# Altium footprint library MCU.PcbLib: 25 footprints (part 2 of 2)
Each footprint in its own frame and in the unit in brackets; x right, y up, seen from the top. Pads: shape width x height; smd on the part's side, far side on the other; paste and mask are expansions set on the pad; w line width, h text height; cw(c..) or ccw(c..) is an arc to the next point about the centre after c.
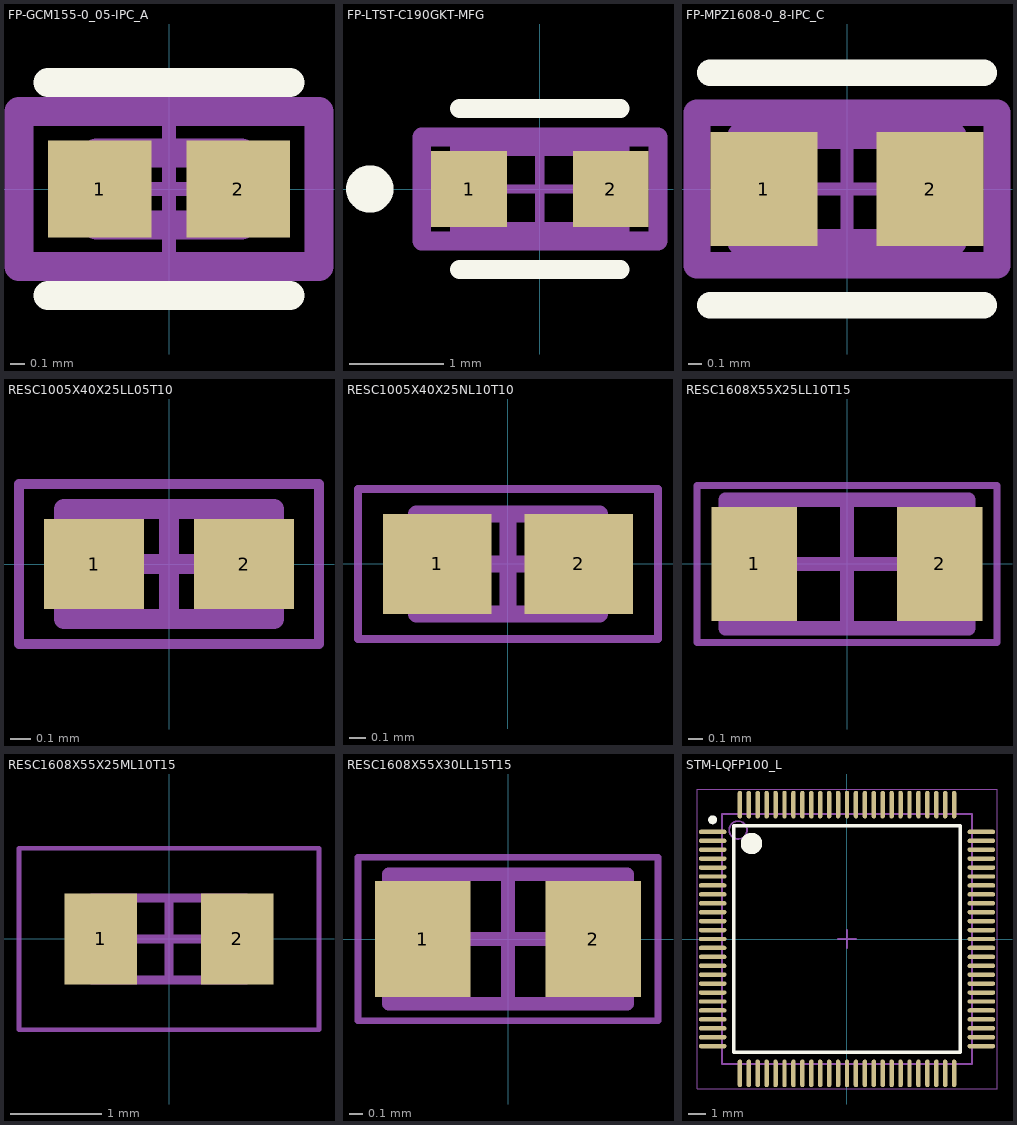
[diagram p1: the footprints below, top view; thin cyan lines are the x and y axes]

## FP-GCM155-0_05-IPC_A [mm]
pads (2):
  rect 0.715x0.672 smd paste+0 mask+0: 1(-0.479,0) 2(0.479,0)
Top Overlay:
  lines w0.2: -0.836,-0.736 0.836,-0.736 ; -0.836,0.736 0.836,0.736
Top Assembly:
  lines w0.2: -1.036,-0.536 -1.036,0.536 1.036,0.536 1.036,-0.536 -1.036,-0.536
  text ".Designator" at 0,0.187 h1
Top 3D Body:
  lines w0.2: -0.5,-0.25 -0.5,0.25 0.5,0.25 0.5,-0.25 -0.5,-0.25
Top Courtyard:
  lines w0.2: -1.036,-0.536 -1.036,0.536 1.036,0.536 1.036,-0.536 -1.036,-0.536
Top Component Center:
  lines w0.1: -0.5,0 0.5,0 ; 0,-0.5 0,0.5
3D body "Cap_Murata_GCM155R71H271KA37D_eec.STEP": height 0.25, standoff 0, extent -1.036,-0.536 1.036,0.536

## FP-LTST-C190GKT-MFG [mm]
pads (2):
  rect 0.8x0.8 smd paste+0 mask+0: 1(-0.75,0) 2(0.75,0)
Top Overlay:
  circle w0.25: c-1.8,0 r0.125
  lines w0.2: -0.85,-0.85 0.85,-0.85 ; -0.85,0.85 0.85,0.85
Top Assembly:
  lines w0.2: -1.25,-0.55 1.25,-0.55 1.25,0.55 -1.25,0.55 -1.25,-0.55
  text ".Designator" at 0,-0.001 h1
Top 3D Body:
  lines w0.2: -0.85,-0.45 0.85,-0.45 0.85,0.45 -0.85,0.45 -0.85,-0.45
Top Courtyard:
  lines w0.2: -1.25,-0.55 1.25,-0.55 1.25,0.55 -1.25,0.55 -1.25,-0.55
Top Component Center:
  lines w0.1: -0.5,0 0.5,0 ; 0,-0.5 0,0.5
3D body "Diode_Lite-On_LTST-C190GKT_eec.STEP": height 0.25, standoff 0, extent -1.25,-0.55 1.25,0.55

## FP-MPZ1608-0_8-IPC_C [mm]
pads (2):
  rect 0.806x0.858 smd paste+0 mask+0: 1(-0.626,0) 2(0.626,0)
Top Overlay:
  lines w0.2: -1.029,-0.875 1.029,-0.875 ; -1.029,0.875 1.029,0.875
Top Assembly:
  lines w0.2: -1.129,-0.575 -1.129,0.575 1.129,0.575 1.129,-0.575 -1.129,-0.575
  text ".Designator" at 0,0.187 h1
Top 3D Body:
  lines w0.2: -0.8,-0.4 -0.8,0.4 0.8,0.4 0.8,-0.4 -0.8,-0.4
Top Courtyard:
  lines w0.2: -1.129,-0.575 -1.129,0.575 1.129,0.575 1.129,-0.575 -1.129,-0.575
Top Component Center:
  lines w0.1: -0.5,0 0.5,0 ; 0,-0.5 0,0.5
3D body "FBead_TDK_MPZ1608S221ATA00_eec.STEP": height 0.25, standoff 0, extent -1.129,-0.575 1.129,0.575

## RESC1005X40X25LL05T10 [mm] "Chip Resistor, 2-Leads, Body 1.00x0.50mm, IPC High Density"
height 0.4
pads (2):
  rect 0.5x0.45 smd: 1(-0.375,0) 2(0.375,0)
Top 3D Body:
  lines w0.1: -0.525,-0.275 -0.525,0.275 0.525,0.275 0.525,-0.275 -0.525,-0.275
Top Courtyard:
  lines w0.05: -0.75,-0.4 -0.75,0.4 0.75,0.4 0.75,-0.4 -0.75,-0.4
  lines w0.1: -0.275,0 0.275,0 ; 0,-0.275 0,0.275
3D body: height 0.4, standoff 0, extent -0.275,-0.275 0.275,0.275
3D body: height 0.4, standoff 0, extent -0.525,-0.275 -0.275,0.275
3D body: height 0.4, standoff 0, extent 0.275,-0.275 0.525,0.275

## RESC1005X40X25NL10T10 [mm] "Chip Resistor, 2-Leads, Body 1.00x0.50mm, IPC Medium Density"
height 0.4
pads (2):
  rect 0.65x0.6 smd: 1(-0.425,0) 2(0.425,0)
Top 3D Body:
  lines w0.1: -0.55,-0.3 0.55,-0.3 0.55,0.3 -0.55,0.3 -0.55,-0.3
Top Courtyard:
  lines w0.05: -0.9,-0.45 0.9,-0.45 0.9,0.45 -0.9,0.45 -0.9,-0.45
  lines w0.1: -0.3,0 0.3,0 ; 0,-0.3 0,0.3
3D body: height 0.4, standoff 0, extent 0.3,-0.3 0.55,0.3
3D body: height 0.4, standoff 0, extent -0.55,-0.3 -0.3,0.3
3D body: height 0.4, standoff 0, extent -0.3,-0.3 0.3,0.3

## RESC1608X55X25LL10T15 [mm] "Chip Resistor, 2-Leads, Body 1.60x0.80mm, IPC High Density"
height 0.55
pads (2):
  rect 0.6x0.8 smd: 1(-0.65,0) 2(0.65,0)
Top 3D Body:
  lines w0.1: -0.85,-0.45 -0.85,0.45 0.85,0.45 0.85,-0.45 -0.85,-0.45
Top Courtyard:
  lines w0.05: -1.05,-0.55 -1.05,0.55 1.05,0.55 1.05,-0.55 -1.05,-0.55
  lines w0.1: -0.45,0 0.45,0 ; 0,-0.45 0,0.45
3D body: height 0.55, standoff 0, extent -0.6,-0.45 0.6,0.45
3D body: height 0.55, standoff 0, extent -0.85,-0.45 -0.6,0.45
3D body: height 0.55, standoff 0, extent 0.6,-0.45 0.85,0.45

## RESC1608X55X25ML10T15 [mm] "Chip Resistor, 2-Leads, Body 1.60x0.80mm, IPC Low Density"
height 0.55
pads (2):
  rect 0.8x1 smd: 1(-0.75,0) 2(0.75,0)
Top 3D Body:
  lines w0.1: -0.85,-0.45 0.85,-0.45 0.85,0.45 -0.85,0.45 -0.85,-0.45
Top Courtyard:
  lines w0.05: -1.65,-1 1.65,-1 1.65,1 -1.65,1 -1.65,-1
  lines w0.1: -0.45,0 0.45,0 ; 0,-0.45 0,0.45
3D body: height 0.55, standoff 0, extent 0.6,-0.45 0.85,0.45
3D body: height 0.55, standoff 0, extent -0.85,-0.45 -0.6,0.45
3D body: height 0.55, standoff 0, extent -0.6,-0.45 0.6,0.45

## RESC1608X55X30LL15T15 [mm] "Chip Resistor, 2-Leads, Body 1.60x0.80mm, IPC High Density"
height 0.55
pads (2):
  rect 0.7x0.85 smd: 1(-0.625,0) 2(0.625,0)
Top 3D Body:
  lines w0.1: -0.875,-0.475 -0.875,0.475 0.875,0.475 0.875,-0.475 -0.875,-0.475
Top Courtyard:
  lines w0.05: -1.1,-0.6 -1.1,0.6 1.1,0.6 1.1,-0.6 -1.1,-0.6
  lines w0.1: -0.475,0 0.475,0 ; 0,-0.475 0,0.475
3D body: height 0.55, standoff 0, extent -0.575,-0.475 0.575,0.475
3D body: height 0.55, standoff 0, extent -0.875,-0.475 -0.575,0.475
3D body: height 0.55, standoff 0, extent 0.575,-0.475 0.875,0.475

## STM-LQFP100_L [mm] "Thin QFP, 100-Leads, Body 14x14mm, Pitch 0.5mm, IPC High Density"
height 1.6
pads (100):
  oval 1.55x0.25 smd: 1(-7.525,6) 2(-7.525,5.5) 3(-7.525,5) 4(-7.525,4.5) 5(-7.525,4) 6(-7.525,3.5) 7(-7.525,3) 8(-7.525,2.5) 9(-7.525,2) 10(-7.525,1.5) 11(-7.525,1) 12(-7.525,0.5) 13(-7.525,0) 14(-7.525,-0.5) 15(-7.525,-1) 16(-7.525,-1.5) 17(-7.525,-2) 18(-7.525,-2.5) 19(-7.525,-3) 20(-7.525,-3.5) 21(-7.525,-4) 22(-7.525,-4.5) 23(-7.525,-5) 24(-7.525,-5.5) 25(-7.525,-6) 51(7.525,-6) 52(7.525,-5.5) 53(7.525,-5) 54(7.525,-4.5) 55(7.525,-4) 56(7.525,-3.5) 57(7.525,-3) 58(7.525,-2.5) 59(7.525,-2) 60(7.525,-1.5) 61(7.525,-1) 62(7.525,-0.5) 63(7.525,0) 64(7.525,0.5) 65(7.525,1) 66(7.525,1.5) 67(7.525,2) 68(7.525,2.5) 69(7.525,3) 70(7.525,3.5) 71(7.525,4) 72(7.525,4.5) 73(7.525,5) 74(7.525,5.5) 75(7.525,6)
  oval 0.25x1.55 smd: 26(-6,-7.525) 27(-5.5,-7.525) 28(-5,-7.525) 29(-4.5,-7.525) 30(-4,-7.525) 31(-3.5,-7.525) 32(-3,-7.525) 33(-2.5,-7.525) 34(-2,-7.525) 35(-1.5,-7.525) 36(-1,-7.525) 37(-0.5,-7.525) 38(0,-7.525) 39(0.5,-7.525) 40(1,-7.525) 41(1.5,-7.525) 42(2,-7.525) 43(2.5,-7.525) 44(3,-7.525) 45(3.5,-7.525) 46(4,-7.525) 47(4.5,-7.525) 48(5,-7.525) 49(5.5,-7.525) 50(6,-7.525) 76(6,7.525) 77(5.5,7.525) 78(5,7.525) 79(4.5,7.525) 80(4,7.525) 81(3.5,7.525) 82(3,7.525) 83(2.5,7.525) 84(2,7.525) 85(1.5,7.525) 86(1,7.525) 87(0.5,7.525) 88(0,7.525) 89(-0.5,7.525) 90(-1,7.525) 91(-1.5,7.525) 92(-2,7.525) 93(-2.5,7.525) 94(-3,7.525) 95(-3.5,7.525) 96(-4,7.525) 97(-4.5,7.525) 98(-5,7.525) 99(-5.5,7.525) 100(-6,7.525)
Top Overlay:
  circle w0.25: c-7.525,6.675 r0.125
  circle w0.6: c-5.35,5.35 r0.3
  lines w0.2: -6.35,-6.35 -6.35,6.35 6.35,6.35 6.35,-6.35 -6.35,-6.35
Top 3D Body:
  circle w0.1: c-6.1,6.1 r0.5
  lines w0.1: -7,-7 -7,7 7,7 7,-7 -7,-7
Top Courtyard:
  lines w0.05: -8.4,-8.4 -8.4,8.4 8.4,8.4 8.4,-8.4 -8.4,-8.4
  lines w0.1: -0.5,0 0.5,0 ; 0,-0.5 0,0.5
3D body: height 1.6, standoff 0.05, extent -7,-7 7,7